# EAGLE library part MBI5029 (library SparkFun)
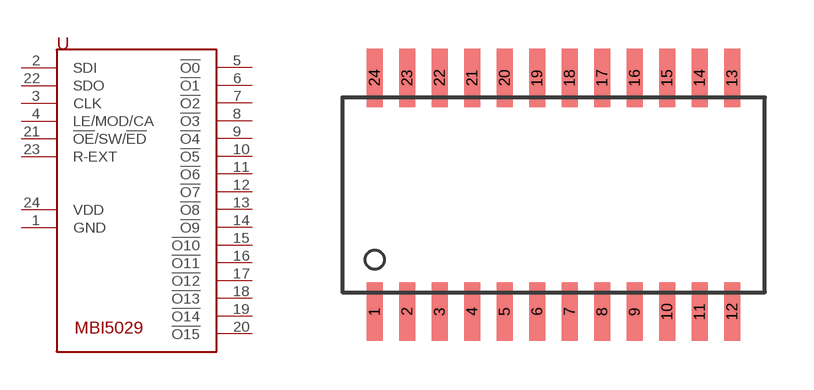
[diagram p379: symbol with the pads of SOP24-300-1.00; footprint SOP24-300-1.00]

Designator prefix -

## MBI5029GF  [SOP24-300-1.00]
1  GND  pwr
2  SDI
3  CLK
4  LE/MOD/CA
5  !O0
6  !O1
7  !O2
8  !O3
9  !O4
10  !O5
11  !O6
12  !O7
13  !O8
14  !O9
15  !O10
16  !O11
17  !O12
18  !O13
19  !O14
20  !O15
21  !OE!/SW/!ED
22  SDO
23  R-EXT
24  VDD  pwr

## Footprint SOP24-300-1.00 (pad centres in mm)
smd 0.48 x 1.8: 1 1,-0.6; 2 2,-0.6; 3 3,-0.6; 4 4,-0.6; 5 5,-0.6; 6 6,-0.6; 7 7,-0.6; 8 8,-0.6; 9 9,-0.6; 10 10,-0.6; 11 11,-0.6; 12 12,-0.6; 13 12,6.6; 14 11,6.6; 15 10,6.6; 16 9,6.6; 17 8,6.6; 18 7,6.6; 19 6,6.6; 20 5,6.6; 21 4,6.6; 22 3,6.6; 23 2,6.6; 24 1,6.6